# Altium integrated library FPGA NB1 Port-Plugin.IntLib: 27 symbols
Pins are listed as number, name and electrical type; pins without a type are passive.

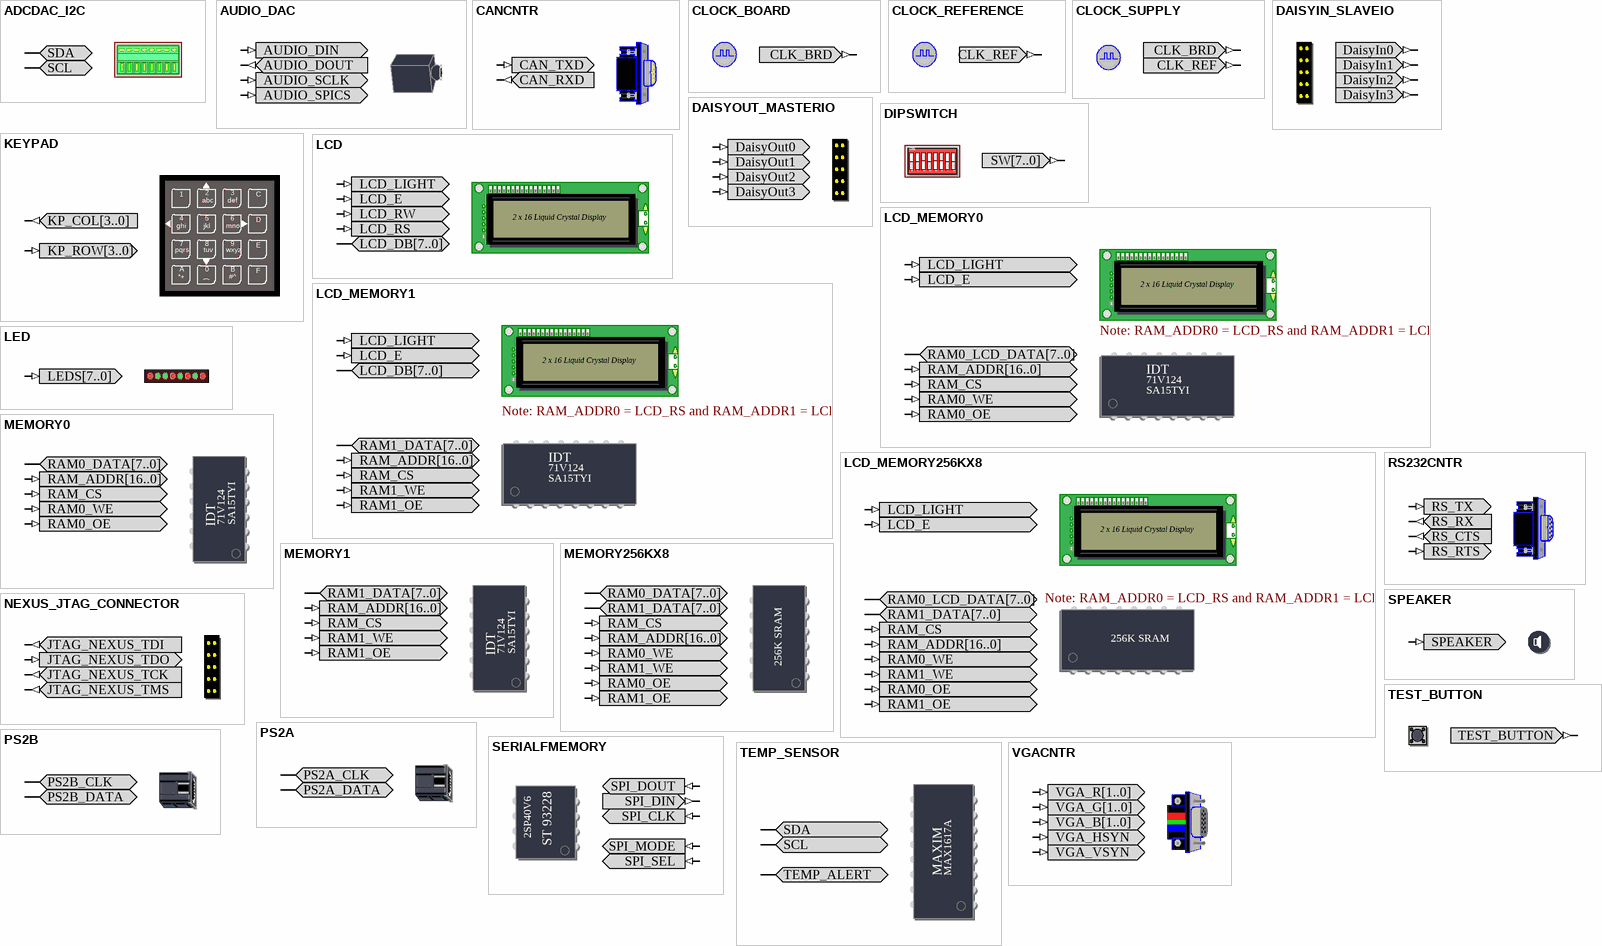
[diagram p0: symbols ADCDAC_I2C to VGACNTR]

## ADCDAC_I2C
designator ?
Analog Digital/ Digital Analog Converter, I2C Interface; PortComponent: True; Published: 19-Nov-2003; Publisher: Altium Limited; HelpURL: TR0102 NanoBoard Technical Reference Manual - NB1.pdf#page=39
pins: SCL (io), SDA (io)

## AUDIO_DAC
designator ?
Audio Jack; PortComponent: True; Published: 19-Nov-2003; Publisher: Altium Limited; HelpURL: TR0102 NanoBoard Technical Reference Manual - NB1.pdf#page=38
pins: AUDIO_DIN (in), AUDIO_DOUT (out), AUDIO_SCLK (in), AUDIO_SPICS (in)

## CANCNTR
designator ?
CAN Bus Connector; PortComponent: True; Published: 19-Nov-2003; Publisher: Altium Limited; HelpURL: TR0102 NanoBoard Technical Reference Manual - NB1.pdf#page=36
pins: CAN_RXD (out), CAN_TXD (in)

## CLOCK_BOARD
designator ?
Global System Clock Supply; PortComponent: True; Published: 19-Nov-2003; Publisher: Altium Limited; HelpURL: TR0102 NanoBoard Technical Reference Manual - NB1.pdf#page=29
pins: CLK_BRD (out)

## CLOCK_REFERENCE
designator ?
Global System Clock Reference Supply; PortComponent: True; Published: 19-Nov-2003; Publisher: Altium Limited; HelpURL: TR0102 NanoBoard Technical Reference Manual - NB1.pdf#page=29
pins: CLK_REF (out)

## CLOCK_SUPPLY
designator ?
Global System Clock and Reference Supply; PortComponent: True; Published: 19-Nov-2003; Publisher: Altium Limited; HelpURL: TR0102 NanoBoard Technical Reference Manual - NB1.pdf#page=29
pins: CLK_BRD (out), CLK_REF (out)

## DAISYIN_SLAVEIO
designator ?
Daisy Chain In; PortComponent: True; Published: 19-Nov-2003; Publisher: Altium Limited; HelpURL: TR0102 NanoBoard Technical Reference Manual - NB1.pdf#page=28
pins: DaisyIn0 (out), DaisyIn1 (out), DaisyIn2 (out), DaisyIn3 (out)

## DAISYOUT_MASTERIO
designator ?
Daisy Chain Out; PortComponent: True; Published: 19-Nov-2003; Publisher: Altium Limited; HelpURL: TR0102 NanoBoard Technical Reference Manual - NB1.pdf#page=28
pins: DaisyOut0 (in), DaisyOut1 (in), DaisyOut2 (in), DaisyOut3 (in)

## DIPSWITCH
designator ?
8-Way Dip Switch; PortComponent: True; Published: 19-Nov-2003; Publisher: Altium Limited; HelpURL: TR0102 NanoBoard Technical Reference Manual - NB1.pdf#page=41
pins: SW[7..0] (out)
text: ON; 1; 2; 3; 4; 5; 6; 7; 8

## KEYPAD
designator ?
Key Pad; PortComponent: True; Published: 19-Nov-2003; Publisher: Altium Limited; HelpURL: TR0102 NanoBoard Technical Reference Manual - NB1.pdf#page=40
pins: KP_COL[3..0] (out), KP_ROW[3..0] (in)
text: 1; 2; 3; C; abc; def; 4; 5; 6; ghi; jkl; mno; D; 7; 8; 9; E; pqrs; tuv; wxyz; A; 0; B; F; *+; (; #^

## LCD
designator ?
Liquid Crystal Display; PortComponent: True; Published: 19-Nov-2003; Publisher: Altium Limited; HelpURL: TR0102 NanoBoard Technical Reference Manual - NB1.pdf#page=39
pins: LCD_DB[7..0] (io), LCD_E (in), LCD_LIGHT (in), LCD_RS (in), LCD_RW (in)
text: 2 x 16 Liquid Crystal Display

## LCD_MEMORY0
designator ?  Note: RAM_ADDR0 = LCD_RS and RAM_ADDR1 = LCD_RW
Liquid Crystal Display and SRAM - 0 Module; PortComponent: True; Published: 19-Nov-2003; Publisher: Altium Limited; HelpURL: TR0102 NanoBoard Technical Reference Manual - NB1.pdf#page=39
pins: LCD_E (in), LCD_LIGHT (in), RAM0_LCD_DATA[7..0] (io), RAM0_OE (in), RAM0_WE (in), RAM_ADDR[16..0] (in), RAM_CS (in)
text: 2 x 16 Liquid Crystal Display; IDT; 71V124; SA15TYI

## LCD_MEMORY1
designator ?  Note: RAM_ADDR0 = LCD_RS and RAM_ADDR1 = LCD_RW
Liquid Crystal Display and SRAM - 1 Module; PortComponent: True; Published: 19-Nov-2003; Publisher: Altium Limited; HelpURL: TR0102 NanoBoard Technical Reference Manual - NB1.pdf#page=39
pins: LCD_DB[7..0] (io), LCD_E (in), LCD_LIGHT (in), RAM1_DATA[7..0] (io), RAM1_OE (in), RAM1_WE (in), RAM_ADDR[16..0] (in), RAM_CS (in)
text: 2 x 16 Liquid Crystal Display; IDT; 71V124; SA15TYI

## LCD_MEMORY256KX8
designator ?  Note: RAM_ADDR0 = LCD_RS and RAM_ADDR1 = LCD_RW
Liquid Crystal Display  and SRAM 256kx8; PortComponent: True; Published: 19-Nov-2003; Publisher: Altium Limited; HelpURL: TR0102 NanoBoard Technical Reference Manual - NB1.pdf#page=39
pins: LCD_E (in), LCD_LIGHT (in), RAM0_LCD_DATA[7..0] (io), RAM0_OE (in), RAM0_WE (in), RAM1_DATA[7..0] (io), RAM1_OE (in), RAM1_WE (in), RAM_ADDR[16..0] (in), RAM_CS (in)
text: 2 x 16 Liquid Crystal Display; 256K SRAM

## LED
designator ?
8-Way LEDS; PortComponent: True; Published: 19-Nov-2003; Publisher: Altium Limited; HelpURL: TR0102 NanoBoard Technical Reference Manual - NB1.pdf#page=41
pins: LEDS[7..0] (in)

## MEMORY0
designator ?
SRAM - 0 Module; PortComponent: True; Published: 19-Nov-2003; Publisher: Altium Limited; HelpURL: TR0102 NanoBoard Technical Reference Manual - NB1.pdf#page=33
pins: RAM0_DATA[7..0] (io), RAM0_OE (in), RAM0_WE (in), RAM_ADDR[16..0] (in), RAM_CS (in)
text: IDT; 71V124; SA15TYI

## MEMORY1
designator ?
SRAM - 1 Module; PortComponent: True; Published: 19-Nov-2003; Publisher: Altium Limited; HelpURL: TR0102 NanoBoard Technical Reference Manual - NB1.pdf#page=33
pins: RAM1_DATA[7..0] (io), RAM1_OE (in), RAM1_WE (in), RAM_ADDR[16..0] (in), RAM_CS (in)
text: IDT; 71V124; SA15TYI

## MEMORY256KX8
designator ?
SRAM 256kx8; PortComponent: True; Published: 19-Nov-2003; Publisher: Altium Limited; HelpURL: TR0102 NanoBoard Technical Reference Manual - NB1.pdf#page=33
pins: RAM0_DATA[7..0] (io), RAM0_OE (in), RAM0_WE (in), RAM1_DATA[7..0] (io), RAM1_OE (in), RAM1_WE (in), RAM_ADDR[16..0] (in), RAM_CS (in)
text: 256K SRAM

## NEXUS_JTAG_CONNECTOR
designator ?
JTAG Port; PortComponent: True; Published: 19-Nov-2003; Publisher: Altium Limited; HelpURL: TR0102 NanoBoard Technical Reference Manual - NB1.pdf#page=33
pins: JTAG_NEXUS_TCK (out), JTAG_NEXUS_TDI (out), JTAG_NEXUS_TDO (in), JTAG_NEXUS_TMS (out)

## PS2A
designator ?
Mouse PS2 Connector; PortComponent: True; Published: 19-Nov-2003; Publisher: Altium Limited; HelpURL: TR0102 NanoBoard Technical Reference Manual - NB1.pdf#page=37
pins: PS2A_CLK (io), PS2A_DATA (io)

## PS2B
designator ?
Key Board PS2 Connector; PortComponent: True; Published: 19-Nov-2003; Publisher: Altium Limited; HelpURL: TR0102 NanoBoard Technical Reference Manual - NB1.pdf#page=37
pins: PS2B_CLK (io), PS2B_DATA (io)

## RS232CNTR
designator ?
DCE Serial Port Connector; PortComponent: True; Published: 19-Nov-2003; Publisher: Altium Limited; HelpURL: TR0102 NanoBoard Technical Reference Manual - NB1.pdf#page=36
pins: RS_CTS (out), RS_RTS (in), RS_RX (out), RS_TX (in)

## SERIALFMEMORY
designator ?
Serial Flash Memory; PortComponent: True; Published: 19-Nov-2003; Publisher: Altium Limited; HelpURL: TR0102 NanoBoard Technical Reference Manual - NB1.pdf#page=34
pins: SPI_CLK (in), SPI_DIN (out), SPI_DOUT (in), SPI_MODE (in), SPI_SEL (in)
text: 2SP40V6; ST 93228

## SPEAKER
designator ?
Sound interface; PortComponent: True; Published: 19-Nov-2003; Publisher: Altium Limited; HelpURL: TR0102 NanoBoard Technical Reference Manual - NB1.pdf#page=40
pins: SPEAKER (in)

## TEMP_SENSOR
designator ?
Remote/Local Temperature Sensor with SMBus Serial Interface; PortComponent: True; Published: 13-May-2004; Publisher: Altium Limited
pins: SCL (io), SDA (io), TEMP_ALERT (oc)
text: MAXIM; MAX1617A

## TEST_BUTTON
designator ?
Test Button; PortComponent: True; Published: 19-Nov-2003; Publisher: Altium Limited; HelpURL: TR0102 NanoBoard Technical Reference Manual - NB1.pdf#page=41
pins: TEST_BUTTON (out)

## VGACNTR
designator ?
VGA Dsub-15-Female-HD; PortComponent: True; Published: 19-Nov-2003; Publisher: Altium Limited; HelpURL: TR0102 NanoBoard Technical Reference Manual - NB1.pdf#page=37
pins: VGA_B[1..0] (in), VGA_G[1..0] (in), VGA_HSYN (in), VGA_R[1..0] (in), VGA_VSYN (in)